# EAGLE library part PIC24FJ*GA006 (library DodoMicroRev1)
PIC24 16bits with RTCC and two (SPI , I2C , USART) ports
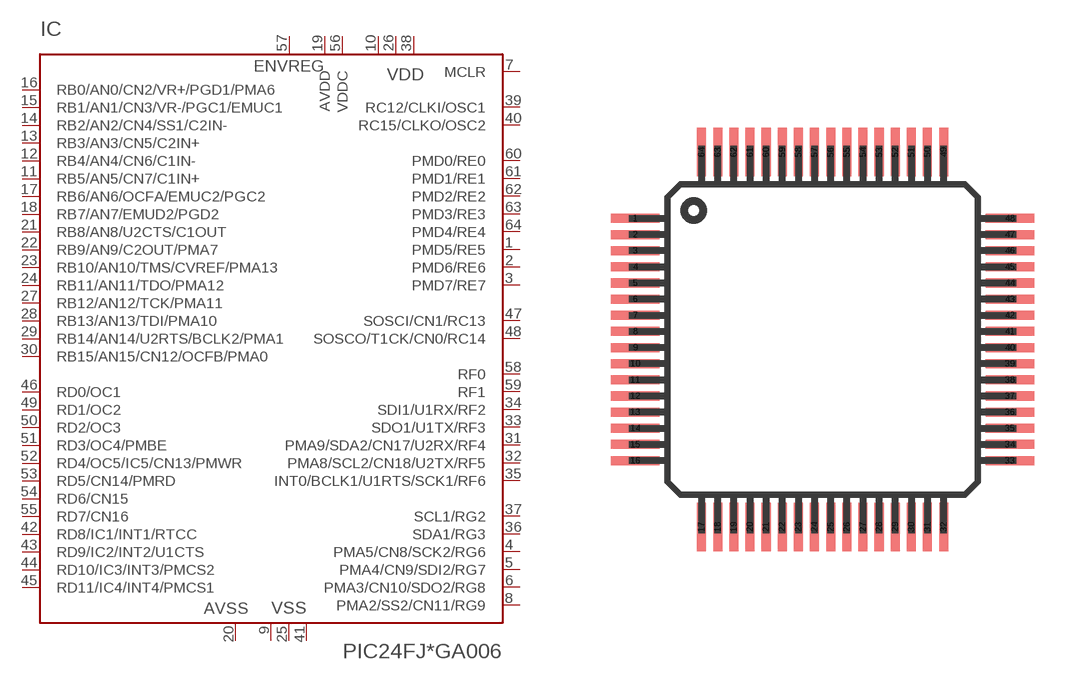
[diagram p0: symbol with the pads of TQFP64-10X10; footprint TQFP64-10X10]

Designator prefix IC

## PIC24FJ128GA006/PT, PIC24FJ64GA006/PT, PIC24FJ96GA006/PT  [TQFP64-10X10]
1  PMD5/RE5
2  PMD6/RE6
3  PMD7/RE7
4  PMA5/CN8/SCK2/RG6
5  PMA4/CN9/SDI2/RG7
6  PMA3/CN10/SDO2/RG8
7  MCLR  in
8  PMA2/SS2/CN11/RG9
9  VSS  pwr
10  VDD  pwr
11  RB5/AN5/CN7/C1IN+
12  RB4/AN4/CN6/C1IN-
13  RB3/AN3/CN5/C2IN+
14  RB2/AN2/CN4/SS1/C2IN-
15  RB1/AN1/CN3/VR-/PGC1/EMUC1
16  RB0/AN0/CN2/VR+/PGD1/PMA6
17  RB6/AN6/OCFA/EMUC2/PGC2
18  RB7/AN7/EMUD2/PGD2
19  AVDD
20  AVSS
21  RB8/AN8/U2CTS/C1OUT
22  RB9/AN9/C2OUT/PMA7
23  RB10/AN10/TMS/CVREF/PMA13
24  RB11/AN11/TDO/PMA12
25  VSS  pwr
26  VDD  pwr
27  RB12/AN12/TCK/PMA11
28  RB13/AN13/TDI/PMA10
29  RB14/AN14/U2RTS/BCLK2/PMA1
30  RB15/AN15/CN12/OCFB/PMA0
31  PMA9/SDA2/CN17/U2RX/RF4
32  PMA8/SCL2/CN18/U2TX/RF5
33  SDO1/U1TX/RF3
34  SDI1/U1RX/RF2
35  INT0/BCLK1/U1RTS/SCK1/RF6
36  SDA1/RG3
37  SCL1/RG2
38  VDD  pwr
39  RC12/CLKI/OSC1
40  RC15/CLKO/OSC2
41  VSS  pwr
42  RD8/IC1/INT1/RTCC
43  RD9/IC2/INT2/U1CTS
44  RD10/IC3/INT3/PMCS2
45  RD11/IC4/INT4/PMCS1
46  RD0/OC1
47  SOSCI/CN1/RC13
48  SOSCO/T1CK/CN0/RC14
49  RD1/OC2
50  RD2/OC3
51  RD3/OC4/PMBE
52  RD4/OC5/IC5/CN13/PMWR
53  RD5/CN14/PMRD
54  RD6/CN15
55  RD7/CN16
56  VDDC
57  ENVREG
58  RF0
59  RF1
60  PMD0/RE0
61  PMD1/RE1
62  PMD2/RE2
63  PMD3/RE3
64  PMD4/RE4

## Footprint TQFP64-10X10 (pad centres in mm)
Thin Quad Flat Pack package type TQ
smd 1.5 x 0.28: 1 -5.8,3.75; 2 -5.8,3.25; 3 -5.8,2.75; 4 -5.8,2.25; 5 -5.8,1.75; 6 -5.8,1.25; 7 -5.8,0.75; 8 -5.8,0.25; 9 -5.8,-0.25; 10 -5.8,-0.75; 11 -5.8,-1.25; 12 -5.8,-1.75; 13 -5.8,-2.25; 14 -5.8,-2.75; 15 -5.8,-3.25; 16 -5.8,-3.75; 33 5.8,-3.75; 34 5.8,-3.25; 35 5.8,-2.75; 36 5.8,-2.25; 37 5.8,-1.75; 38 5.8,-1.25; 39 5.8,-0.75; 40 5.8,-0.25; 41 5.8,0.25; 42 5.8,0.75; 43 5.8,1.25; 44 5.8,1.75; 45 5.8,2.25; 46 5.8,2.75; 47 5.8,3.25; 48 5.8,3.75
smd 0.28 x 1.5: 17 -3.75,-5.8; 18 -3.25,-5.8; 19 -2.75,-5.8; 20 -2.25,-5.8; 21 -1.75,-5.8; 22 -1.25,-5.8; 23 -0.75,-5.8; 24 -0.25,-5.8; 25 0.25,-5.8; 26 0.75,-5.8; 27 1.25,-5.8; 28 1.75,-5.8; 29 2.25,-5.8; 30 2.75,-5.8; 31 3.25,-5.8; 32 3.75,-5.8; 49 3.75,5.8; 50 3.25,5.8; 51 2.75,5.8; 52 2.25,5.8; 53 1.75,5.8; 54 1.25,5.8; 55 0.75,5.8; 56 0.25,5.8; 57 -0.25,5.8; 58 -0.75,5.8; 59 -1.25,5.8; 60 -1.75,5.8; 61 -2.25,5.8; 62 -2.75,5.8; 63 -3.25,5.8; 64 -3.75,5.8